# Altium schematic symbol library bluetooth.SchLib: 1 symbol
Pins are listed as number, name and electrical type; pins without a type are passive.

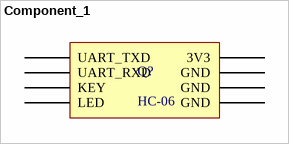
[diagram p0: symbol Component_1]

## Component_1
designator Q?, comment HC-06
Bluetooth
footprint PCBComponent_1; pin to pad 1>UART_TXD 2>UART_RXD 3>3V3 4>GND 5>GND 6>GND 7>LED 8>KEY
pins: 1 UART_TXD, 2 UART_RXD, 3 3V3, 4 GND, 5 GND, 6 GND, 7 LED, 8 KEY